# EAGLE library part SM08B-SRSS-TB_LF__SN_ (library SM08B-SRSS-TB_LF__SN_)
Connector Header Surface Mount, Right Angle 8 position 0.039" (1.00mm) Source: Datasheet <https://www.jst-mfg.com/product/pdf/eng/eSH.pdf?681342af00cbd>
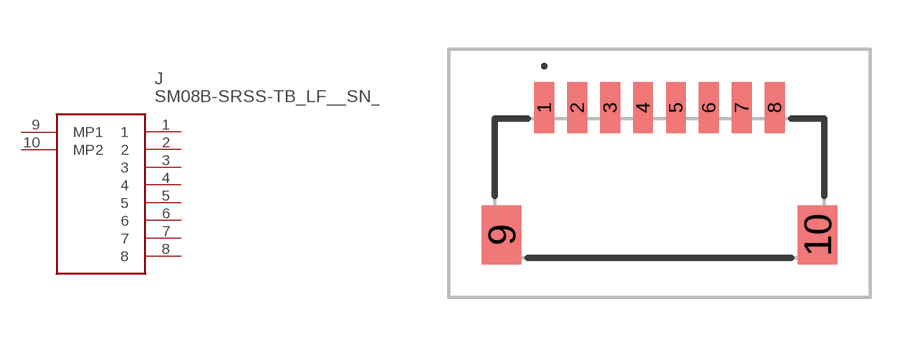
[diagram p0: symbol with the pads of SM08BSRSSTBLFSN; footprint SM08BSRSSTBLFSN]

Designator prefix J

## SM08B-SRSS-TB_LF__SN_ (Description: Connector Header Surface Mount, Right Angle 8 position 0.039" (1.00mm); Height: 2.95mm; Manufacturer_Name: JST (JAPAN SOLDERLESS TERMINALS); Manufacturer_Part_Number: SM08B-SRSS-TB(LF)(SN); Mouser_Part_Number: N/A; Mouser_Price-Stock: https://www.mouser.co.uk/ProductDetail/JST-Commercial/SM08B-SRSS-TBLFSN?qs=QpmGXVUTftEPqGOAsnf4nQ%3D%3D)  [SM08BSRSSTBLFSN]
1  1
2  2
3  3
4  4
5  5
6  6
7  7
8  8
9  MP1
10  MP2

## Footprint SM08BSRSSTBLFSN (pad centres in mm)
SM08B-SRSS-TB(LF)(SN)-2
smd 0.6 x 1.55: 1 -3.5,2.288; 2 -2.5,2.288; 3 -1.5,2.288; 4 -0.5,2.288; 5 0.5,2.288; 6 1.5,2.288; 7 2.5,2.288; 8 3.5,2.288
smd 1.2 x 1.8: 9 -4.8,-1.588; 10 4.8,-1.588